# Altium footprint library NFC_ant.PcbLib: 1 footprints
Each footprint in its own frame and in the unit in brackets; x right, y up, seen from the top. Pads: shape width x height; smd on the part's side, far side on the other; paste and mask are expansions set on the pad; w line width, h text height; cw(c..) or ccw(c..) is an arc to the next point about the centre after c.
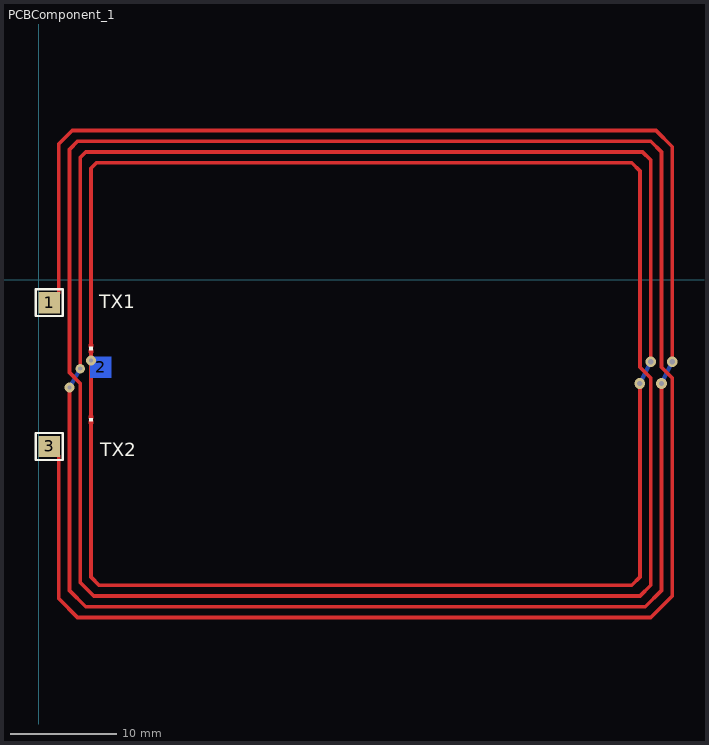
[diagram p0: the footprint, top view; thin cyan lines are the x and y axes]

## PCBComponent_1 [mm]
pads (3):
  rect 2x2 smd paste+0 mask+0.051: 1(0.993,-2.158) 3(0.993,-15.73)
  rect 2x2 smd far side paste+0 mask+0.051: 2(5.842,-8.255)
via 4.938,-7.62 diameter 0.908 hole 0.4
via 59.802,-7.747 diameter 1.008 hole 0.5
via 58.786,-9.779 diameter 1.008 hole 0.5
via 2.906,-10.16 diameter 0.908 hole 0.4
via 3.922,-8.382 diameter 0.908 hole 0.4
via 57.77,-7.747 diameter 1.008 hole 0.5
via 56.754,-9.779 diameter 1.008 hole 0.5
Top Layer:
  region: 5.153,-12.813 5.153,-13.093 4.723,-13.093 4.723,-12.813
  region: 5.153,-13.323 5.153,-13.603 4.723,-13.603 4.723,-13.323
  region: 4.723,-6.872 4.723,-6.592 5.153,-6.592 5.153,-6.872
  region: 4.723,-6.362 4.723,-6.082 5.153,-6.082 5.153,-6.362
  lines w0.356: 0.993,-15.73 1.882,-16.619 1.882,-30.091 3.668,-31.877 57.77,-31.877 59.802,-29.845 59.802,-9.271 58.786,-8.255 58.786,12.065 57.77,13.081 3.668,13.081 2.906,12.319 2.906,-8.763 3.922,-9.779 3.922,-28.575 5.192,-29.845 56.754,-29.845 57.77,-28.829 57.77,-9.271 56.754,-8.255 56.754,10.287 55.992,11.049 5.446,11.049 4.938,10.541 4.938,-6.222 ; 0.993,-2.158 1.882,-1.269 1.882,12.819 3.16,14.097 58.278,14.097 59.802,12.573 59.802,-7.747 ; 2.906,-10.16 2.906,-29.337 4.43,-30.861 57.262,-30.861 58.786,-29.337 58.786,-9.779 ; 3.922,-8.382 3.922,11.557 4.43,12.065 57.008,12.065 57.77,11.303 57.77,-7.747 ; 4.938,-13.463 4.938,-7.62 4.938,-6.732 ; 4.938,-12.827 4.938,-12.953 4.938,-28.067 5.7,-28.829 55.992,-28.829 56.754,-28.067 56.754,-9.779
  lines w0.406: 0.993,-2.158 1.12,-2.285 ; 4.938,-6.732 4.938,-5.842
Bottom Layer:
  lines w0.406: 2.906,-10.16 3.922,-8.382 ; 4.938,-7.62 4.938,-7.605 6.223,-8.89 ; 56.754,-9.779 57.77,-7.747 ; 58.786,-9.779 59.802,-7.747
Top Overlay:
  region: 4.788,-13.058 4.788,-13.358 5.088,-13.358 5.088,-13.058
  region: 5.088,-6.627 5.088,-6.327 4.788,-6.327 4.788,-6.627
  lines w0.203: -0.277,-17 2.263,-17 2.263,-14.46 -0.277,-14.46 -0.277,-17 ; -0.277,-3.428 2.263,-3.428 2.263,-0.888 -0.277,-0.888 -0.277,-3.428
  text "TX1" at 5.69,-2.692 h1.27
  text "TX2" at 5.817,-16.662 h1.27
Mechanical 15:
  region: 4.788,-12.908 4.788,-13.058 5.088,-13.058 5.088,-12.908
  region: 4.788,-13.358 4.788,-13.508 5.088,-13.508 5.088,-13.358
  region: 5.088,-6.777 5.088,-6.627 4.788,-6.627 4.788,-6.777
  region: 5.088,-6.327 5.088,-6.177 4.788,-6.177 4.788,-6.327